# Altium footprint library Female Barrel Connector.PcbLib: 1 footprints
Each footprint in its own frame and in the unit in brackets; x right, y up, seen from the top. Pads: shape width x height; smd on the part's side, far side on the other; paste and mask are expansions set on the pad; w line width, h text height; cw(c..) or ccw(c..) is an arc to the next point about the centre after c.
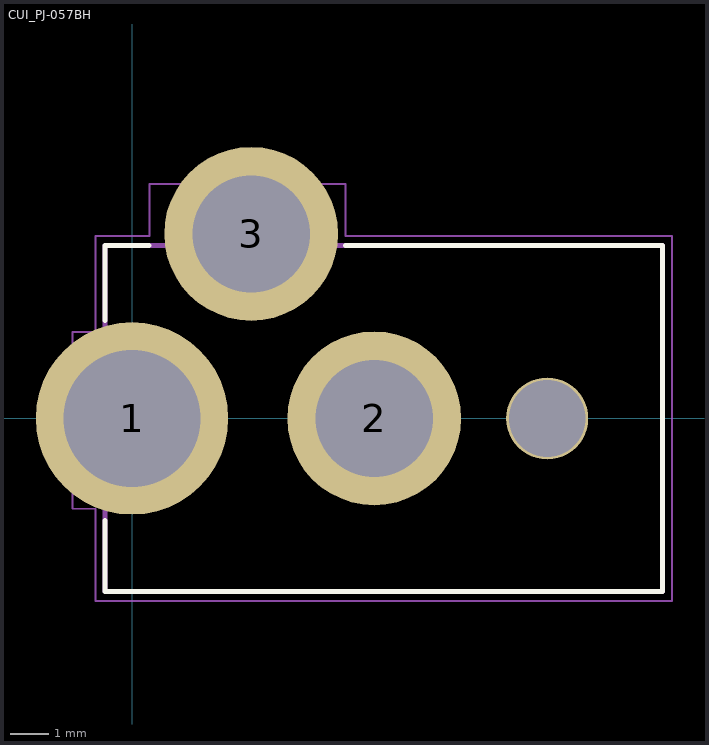
[diagram p0: the footprint, top view; thin cyan lines are the x and y axes]

## CUI_PJ-057BH [mil]
pads (4):
  round 197 hole 140: 1(0,0)
  round 178 hole 120: 2(248.03,0) 3(122.05,188.98)
  round 84 hole 78.74 unplated: ""(425.2,0)
Top Overlay:
  circle w15.75: c-78.74,0 r7.87
  lines w5: -27.56,-104.33 -27.56,-177.17 543.31,-177.17 543.31,177.17 218.5,177.17 ; -27.56,100.39 -27.56,177.17 17.72,177.17
Mechanical 13:
  lines w5: -27.56,-177.17 543.31,-177.17 543.31,177.17 -27.56,177.17 -27.56,-177.17
Mechanical 15:
  lines w1.97: -61.02,-92.52 -61.02,88.58 -37.4,88.58 -37.4,187.01 17.72,187.01 17.72,240.16 218.5,240.16 218.5,187.01 553.15,187.01 553.15,-187.01 -37.4,-187.01 -37.4,-92.52 -61.02,-92.52